# Altium footprint library KN2CLib.PcbLib: 118 footprints (part 3 of 8)
Each footprint in its own frame and in the unit in brackets; x right, y up, seen from the top. Pads: shape width x height; smd on the part's side, far side on the other; paste and mask are expansions set on the pad; w line width, h text height; cw(c..) or ccw(c..) is an arc to the next point about the centre after c.
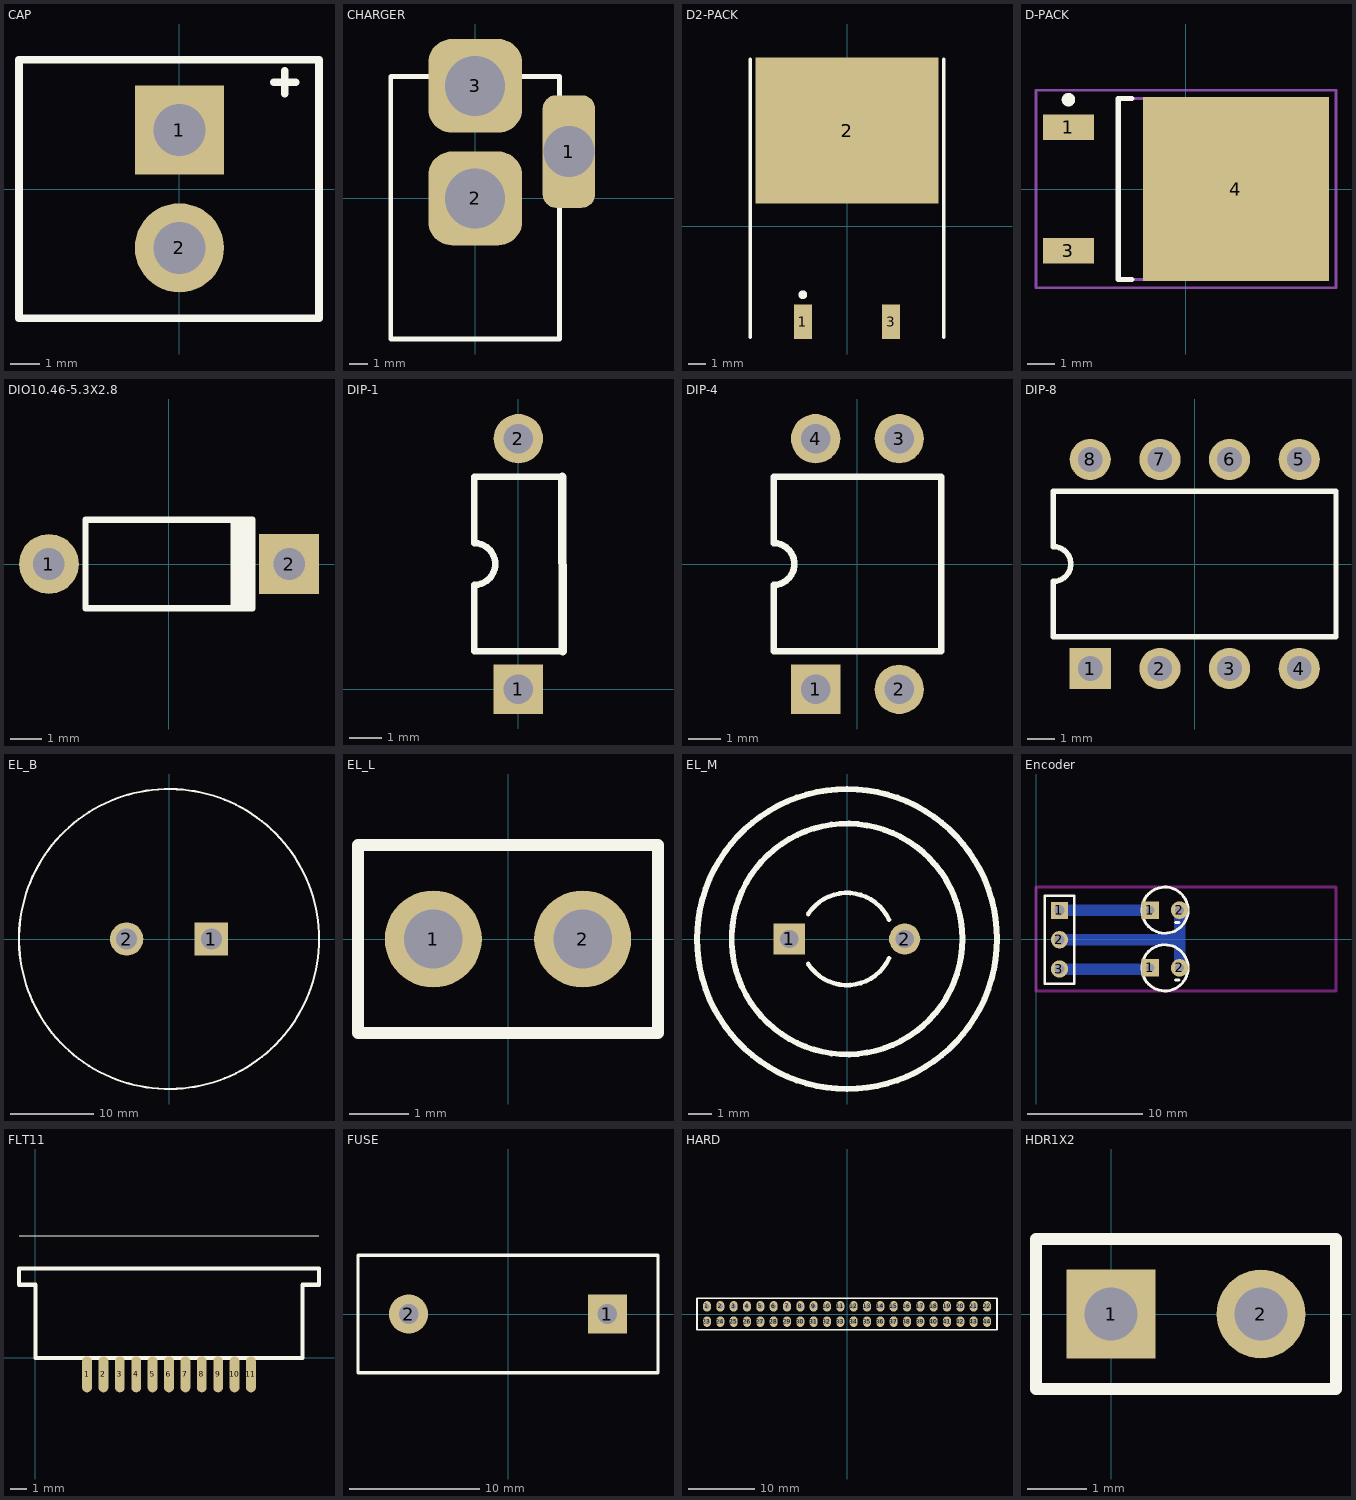
[diagram p2: the footprints below, top view; thin cyan lines are the x and y axes]

## CAP [mm]
pads (2):
  rect 3x3 hole 1.75: 1(0,1.98)
  round 3 hole 1.75: 2(0,-1.98)
Top Overlay:
  lines w0.254: 3.185,3.597 3.912,3.597 ; 3.548,3.2 3.548,3.978 ; -5.4,-4.355 4.7,-4.355 4.7,4.355 -5.4,4.355 -5.4,-4.355
3D body: height 12.5, standoff 0, extent -5.525,-4.5 4.825,4.475

## CHARGER [mm]
pads (3):
  rrect50% 2.8x6 hole 2.7: 1(5,2.5)
  rrect50% 5x5 hole 3.2: 2(0,0) 3(0,6)
Top Overlay:
  lines w0.254: -4.5,-7.5 4.5,-7.5 4.5,6.5 -4.5,6.5 -4.5,-7.5
3D body: height 11.6, standoff 0, extent -4.625,-7.6 4.6,6.6

## D2-PACK [mm] "D2-PAK/TO-263-AB; 3 Leads (1 Cropped); Body 15.5 (inc. leads) x 10.5 mm (LxW max)"
height 4.69
pads (3):
  rect 1.05x2 smd: 1(-2.54,-5.5) 3(2.54,-5.5)
  rect 10.55x8.4 smd: 2(0,5.5)
Top Overlay:
  circle w0.25: c-2.54,-3.95 r0.125
  lines w0.2: -5.575,-6.4 -5.575,9.6 ; 5.575,-6.4 5.575,9.6
3D body: height 2.38, standoff 0, extent -5.675,-2.2 5.7,9.75

## D-PACK [mm] "D-PAK, 3-Pads, Body 6.2x6.7mm (max), IPC Medium Density"
height 2.38
pads (3):
  rect 1.9x0.95 smd: 1(-4.35,2.28) 3(-4.35,-2.28)
  rect 6.9x6.8 smd: 4(1.85,0)
Top Overlay:
  circle w0.25: c-4.35,3.305 r0.125
  lines w0.2: -2,-3.35 -2.5,-3.35 -2.5,3.35 -2,3.35
Mechanical 13:
  lines w0.1: -2.5,-3.35 -2.5,3.35 3.7,3.35 3.7,-3.35 -2.5,-3.35
Mechanical 15:
  lines w0.1: -0.5,0 0.5,0 ; 0,-0.5 0,0.5 ; -5.55,-3.65 -5.55,3.65 5.55,3.65 5.55,-3.65 -5.55,-3.65
3D body: height 2.38, standoff 0, extent -2.5,-3.35 3.7,3.35

## DIO10.46-5.3X2.8 [mm]
pads (2):
  round 1.9 hole 1: 1(-3.81,0)
  rect 1.9x1.9 hole 1: 2(3.81,0)
Top Overlay:
  rectangle: 1.95,-1.4 2.75,1.4
  lines w0.2: 2.65,-1.4 -2.65,-1.4 -2.65,1.4 2.65,1.4
3D body: height 3.3, standoff 0, extent -2.75,-1.5 2.75,1.5

## DIP-1 [mm] "DIP; 8 Leads; Row Spacing 7.62 mm; Pitch 2.54 mm"
height 5.08
pads (2):
  rect 1.5x1.5 hole 0.9: 1(0,0)
  round 1.5 hole 0.9: 2(0,7.62)
Top Overlay:
  lines w0.2: 1.333,6.46 -1.34,6.46 -1.34,4.445 cw(c-1.34,3.81) -1.34,3.175 -1.34,1.16 1.344,1.16
  lines w0.254: 1.333,6.46 1.344,1.16
3D body: height 6.8, standoff 0, extent -1.425,1.05 1.475,6.575

## DIP-4 [mm] "DIP; 4 Leads; Row Spacing 7.62 mm; Pitch 2.54 mm"
height 5.6
pads (4):
  rect 1.5x1.5 hole 0.9: 1(-1.27,-3.81)
  round 1.5 hole 0.9: 2(1.27,-3.81) 3(1.27,3.81) 4(-1.27,3.81)
Top Overlay:
  lines w0.2: -2.55,-2.65 2.55,-2.65 2.55,2.65 -2.55,2.65 -2.55,0.635 cw(c-2.55,0) -2.55,-0.635 -2.55,-2.65
3D body: height 6.8, standoff 0, extent -2.65,-2.75 2.675,2.75

## DIP-8 [mm] "DIP; 8 Leads; Row Spacing 7.62 mm; Pitch 2.54 mm"
height 5.08
pads (8):
  rect 1.5x1.5 hole 0.9: 1(-3.81,-3.81)
  round 1.5 hole 0.9: 2(-1.27,-3.81) 3(1.27,-3.81) 4(3.81,-3.81) 5(3.81,3.81) 6(1.27,3.81) 7(-1.27,3.81) 8(-3.81,3.81)
Top Overlay:
  lines w0.2: -5.15,-2.65 -5.15,-0.635 ccw(c-5.15,0) -5.15,0.635 -5.15,2.65 5.15,2.65 5.15,-2.65 -5.15,-2.65
3D body: height 6.8, standoff 0, extent -5.275,-2.75 5.225,2.775

## EL_B [mm]
pads (2):
  rect 4x4 hole 2.5: 1(5.08,0)
  round 4 hole 2.5: 2(-5.08,0)
Top Overlay:
  circle w0.254: c0,0 r18
3D body: height 15, standoff 0, extent -17.975,-18.025 17.975,17.9

## EL_L [mm]
pads (2):
  round 1.65 hole 1: 1(-1.27,0) 2(1.27,0)
Top Overlay:
  lines w0.2: -2.55,-1.6 -2.55,1.6 2.55,1.6 2.55,-1.6 -2.55,-1.6
3D body: height 4.5, standoff 0, extent -2.625,-1.7 2.65,1.675

## EL_M [mm]
pads (2):
  rect 1.35x1.35 hole 0.8: 1(-2.5,0)
  round 1.35 hole 0.8: 2(2.5,0)
Top Overlay:
  circle w0.254: c0,0 r6.5
  circle w0.254: c0,0 r5
  lines w0.2: -1.687,-1.075 ccw(c0,0) 1.819,-0.832 ; -1.687,1.075 cw(c0,0) 1.819,0.832
3D body: height 21, standoff 0, extent -6.475,-6.5 6.5,6.5
3D body: height 17, standoff 0, extent -1.925,-2 1.975,2.025
3D body: height 16, standoff 0, extent -5,-5 5,4.975

## Encoder [mil]
pads (7):
  rect 59.06x59.06 hole 35.43: 1(80,97.48)
  rect 60x60 hole 30: 1(390,-98.43) 1(390,98.43)
  round 59.06 hole 35.43: 2(80,-2.52) 3(80,-102.52)
  round 60 hole 30: 2(490,-98.43) 2(490,98.43)
Bottom Layer:
  lines w39.37: 80,-102.52 385.91,-102.52 390,-98.43 ; 80,-2.52 490,-2.52 ; 80,97.48 80.94,98.43 390,98.43 ; 490,-98.43 490,-2.52 ; 490,98.43 490,-2.52
Top Overlay:
  circle w10: c440,98.43 r78.74
  circle w10: c440,-98.43 r78.74
  lines w7.87: 30,-152.52 30,147.48 130,147.48 130,-152.52 30,-152.52
  lines w10: 475.3,-140.53 487.7,-140.53 ; 475.3,56.33 487.7,56.33
Keep-Out Layer:
  lines w10: 0,-177.17 1023.62,-177.17 1023.62,177.17 0,177.17 0,-177.17

## FLT11 [mm]
pads (11):
  oval 0.6x2.2 smd: 1(3.15,-1) 2(4.15,-1) 3(5.15,-1) 4(6.15,-1) 5(7.15,-1) 6(8.15,-1) 7(9.15,-1) 8(10.15,-1) 9(11.15,-1) 10(12.15,-1) 11(13.15,-1)
Top Overlay:
  lines w0.01: -1,7.461 17.3,7.461
  lines w0.254: -1,4.461 0,4.461 0,0 16.3,0 16.3,4.461 17.3,4.461 17.3,5.461 -1,5.461 -1,4.461
3D body: height 3, standoff 0, extent -1,0 17.3,5.5

## FUSE [mm]
pads (2):
  rect 3x3 hole 1.5: 1(7.62,0)
  round 3 hole 1.5: 2(-7.62,0)
Top Overlay:
  lines w0.254: -11.5,-4.5 11.5,-4.5 11.5,4.5 -11.5,4.5 -11.5,-4.5
3D body: height 4, standoff 0, extent -11.6,-4.65 11.625,4.625

## HARD [mm]
pads (44):
  oval 1.2x1.6 hole 0.762: 1(-21,1.15) 2(-19,1.15) 3(-17,1.15) 4(-15,1.15) 5(-13,1.15) 6(-11,1.15) 7(-9,1.15) 8(-7,1.15) 9(-5,1.15) 10(-3,1.15) 11(-1,1.15) 12(1,1.15) 13(3,1.15) 14(5,1.15) 15(7,1.15) 16(9,1.15) 17(11,1.15) 18(13,1.15) 19(15,1.15) 20(17,1.15) 21(19,1.15) 22(21,1.15) 23(-21,-1.15) 24(-19,-1.15) 25(-17,-1.15) 26(-15,-1.15) 27(-13,-1.15) 28(-11,-1.15) 29(-9,-1.15) 30(-7,-1.15) 31(-5,-1.15) 32(-3,-1.15) 33(-1,-1.15) 34(1,-1.15) 35(3,-1.15) 36(5,-1.15) 37(7,-1.15) 38(9,-1.15) 39(11,-1.15) 40(13,-1.15) 41(15,-1.15) 42(17,-1.15) 43(19,-1.15) 44(21,-1.15)
Top Overlay:
  lines w0.254: -22.5,-2.35 -22.5,2.35 22.5,2.35 22.5,-2.35 -22.5,-2.35

## HDR1X2 [mm] "Connector; Header; 2 Position"
height 1.75
pads (2):
  rect 1.5x1.5 hole 0.9: 1(0,0)
  round 1.5 hole 0.9: 2(2.54,0)
Top Overlay:
  lines w0.2: -1.27,-1.27 -1.27,1.27 3.81,1.27 3.81,-1.27 -1.27,-1.27
3D body: height 4, standoff 0, extent -1.375,-1.375 3.9,1.375